# Altium footprint library MLPFWB5501E3.PcbLib: 1 footprints
Each footprint in its own frame and in the unit in brackets; x right, y up, seen from the top. Pads: shape width x height; smd on the part's side, far side on the other; paste and mask are expansions set on the pad; w line width, h text height; cw(c..) or ccw(c..) is an arc to the next point about the centre after c.
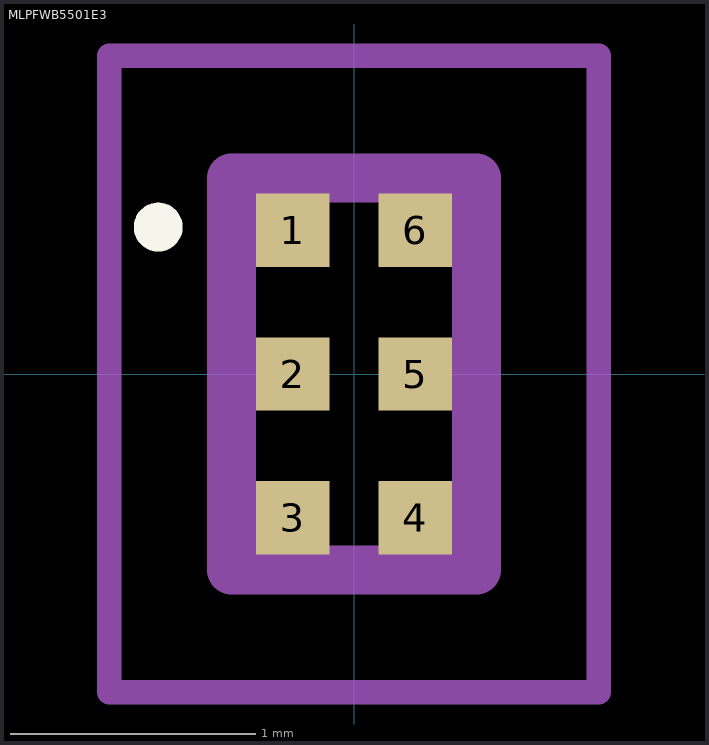
[diagram p0: the footprint, top view; thin cyan lines are the x and y axes]

## MLPFWB5501E3 [mm]
pads (6):
  rect 0.3x0.3 smd: 1(-0.25,0.587) 2(-0.25,0) 3(-0.25,-0.587) 4(0.25,-0.587) 5(0.25,0) 6(0.25,0.587)
Top Overlay:
  lines w0.1: -0.8,0.55 cw(c-0.8,0.6) -0.8,0.65 ; -0.8,0.55 -0.8,0.55 ; -0.8,0.55 ccw(c-0.8,0.6) -0.8,0.65 ; -0.8,0.65 -0.8,0.65
Mechanical 15:
  lines w0.2: -0.5,-0.8 0.5,-0.8 0.5,0.8 -0.5,0.8 -0.5,-0.8
Mechanical 20:
  lines w0.1: -1,-1.3 1,-1.3 1,1.3 -1,1.3 -1,-1.3
3D body "MLPF-WB55-01E3.stp": height 5.8, standoff -4.65, extent -10,-3.376 10,3.376